# Altium integrated library Integrated_Library1.IntLib: 2 symbols
Pins are listed as number, name and electrical type; pins without a type are passive.

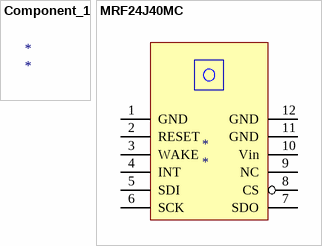
[diagram p0: symbols Component_1 to MRF24J40MC]

## Component_1
designator *

## MRF24J40MC
designator *
pins: 1 GND, 2 RESET, 3 WAKE, 4 INT, 5 SDI, 6 SCK, 7 SDO, 8 CS, 9 NC, 10 Vin, 11 GND, 12 GND